# Altium footprint library Panasonic_ERJ_2512.PcbLib: 1 footprints
Each footprint in its own frame and in the unit in brackets; x right, y up, seen from the top. Pads: shape width x height; smd on the part's side, far side on the other; paste and mask are expansions set on the pad; w line width, h text height; cw(c..) or ccw(c..) is an arc to the next point about the centre after c.
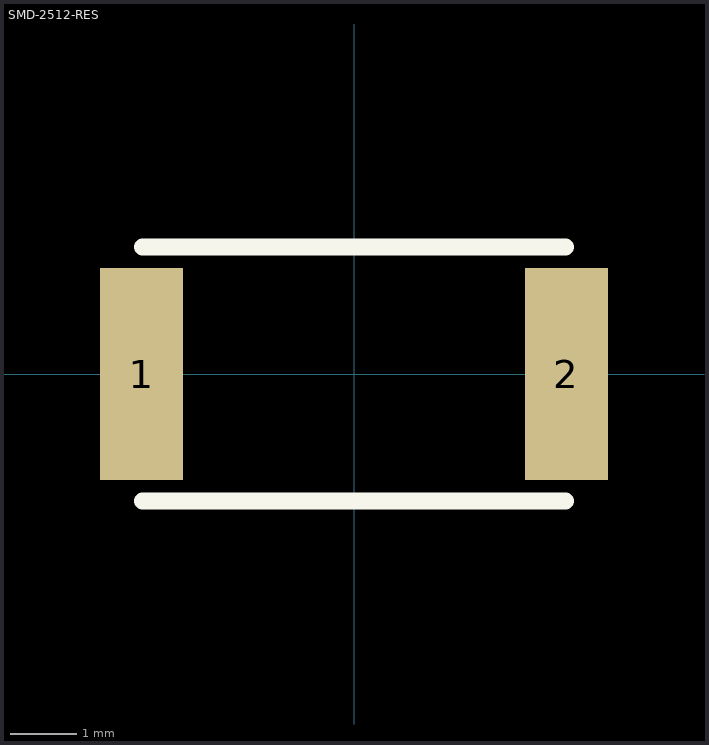
[diagram p0: the footprint, top view; thin cyan lines are the x and y axes]

## SMD-2512-RES [mil]
pads (2):
  rect 49x125 smd: 1(-125.5,0) 2(125.5,0)
Top Overlay:
  lines w10: -125,-75 125,-75 ; -125,75 125,75
3D body: height 63.07, standoff 0, extent -124.99,-59.05 125,59.06